# Altium integrated library CONNECTORS.IntLib: 3 symbols
Pins are listed as number, name and electrical type; pins without a type are passive.

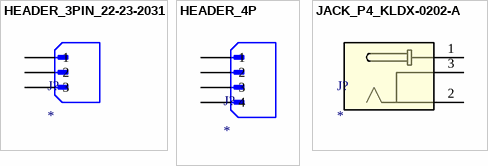
[diagram p0: symbols HEADER_3PIN_22-23-2031 to JACK_P4_KLDX-0202-A]

## HEADER_3PIN_22-23-2031
designator J?
footprint HEADER_3PIN-
pins: 1, 2, 3

## HEADER_4P
designator J?
footprint HEADER_4PIN
pins: 1, 2, 3, 4

## JACK_P4_KLDX-0202-A
designator J?
footprint PCB_JACK_P4
pins: 1, 2, 3